# Altium footprint library TL3340AF160QG.PcbLib: 1 footprints
Each footprint in its own frame and in the unit in brackets; x right, y up, seen from the top. Pads: shape width x height; smd on the part's side, far side on the other; paste and mask are expansions set on the pad; w line width, h text height; cw(c..) or ccw(c..) is an arc to the next point about the centre after c.
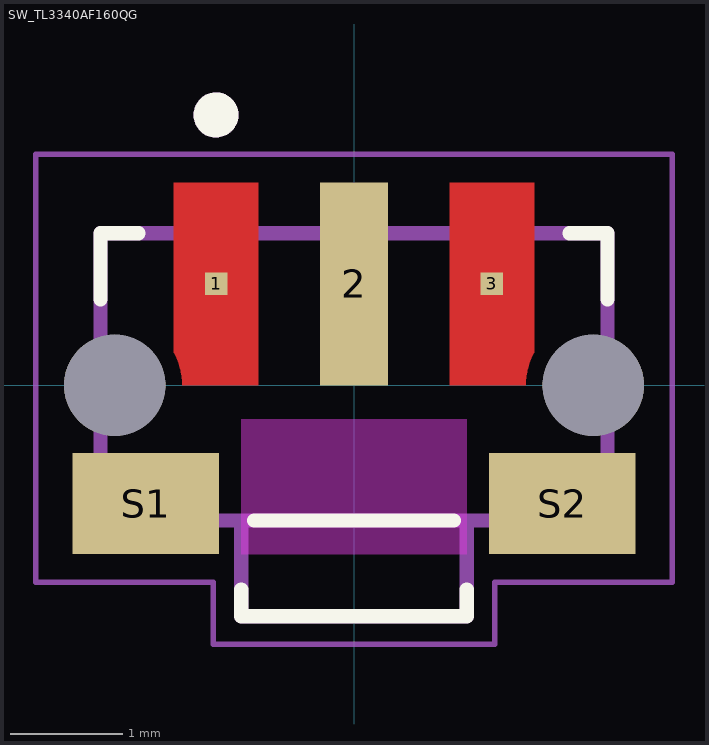
[diagram p0: the footprint, top view; thin cyan lines are the x and y axes]

## SW_TL3340AF160QG [mm]
pads (7):
  rect 0.2x0.2 smd paste-1 mask+0: 1(-1.225,0.9) 3(1.225,0.9)
  rect 0.6x1.8 smd: 2(0,0.9)
  rect 1.3x0.9 smd: S1(-1.85,-1.05) S2(1.85,-1.05)
  round 0.9 hole 0.9 unplated: ""(-2.125,0) ""(2.125,0)
Top Layer:
  region: -0.85,0 -1.525,0 -1.525,0.009 -1.525,0.027 -1.526,0.045 -1.529,0.063 -1.53,0.071 -1.531,0.08 -1.533,0.098 -1.536,0.116 -1.54,0.134 -1.543,0.143 -1.545,0.153 -1.551,0.175 -1.557,0.196 -1.565,0.217 -1.569,0.227 -1.572,0.236 -1.579,0.252 -1.587,0.268 -1.595,0.283 -1.6,0.29 -1.6,0.3 -1.6,1.8 -0.85,1.8
  region: 1.6,0.3 1.6,0.29 1.595,0.283 1.587,0.268 1.579,0.252 1.572,0.236 1.569,0.227 1.565,0.217 1.557,0.196 1.551,0.175 1.545,0.153 1.543,0.143 1.54,0.134 1.536,0.116 1.533,0.098 1.531,0.08 1.53,0.071 1.529,0.063 1.526,0.045 1.525,0.027 1.525,0.009 1.525,0 0.85,0 0.85,1.8 1.6,1.8
Top Overlay:
  circle w0.2: c-1.225,2.4 r0.1
  lines w0.127: -2.25,0.764 -2.25,1.35 -1.913,1.35 ; -1,-1.813 -1,-2.05 1,-2.05 1,-1.813 ; -0.887,-1.2 0.887,-1.2 ; 1.913,1.35 2.25,1.35 2.25,0.764
Top Paste:
  region: -0.85,0 -1.525,0 -1.525,0.009 -1.525,0.027 -1.526,0.045 -1.529,0.063 -1.53,0.071 -1.531,0.08 -1.533,0.098 -1.536,0.116 -1.54,0.134 -1.543,0.143 -1.545,0.153 -1.551,0.175 -1.557,0.196 -1.565,0.217 -1.569,0.227 -1.572,0.236 -1.579,0.252 -1.587,0.268 -1.595,0.283 -1.6,0.29 -1.6,0.3 -1.6,1.8 -0.85,1.8
  region: 1.6,0.3 1.6,0.29 1.595,0.283 1.587,0.268 1.579,0.252 1.572,0.236 1.569,0.227 1.565,0.217 1.557,0.196 1.551,0.175 1.545,0.153 1.543,0.143 1.54,0.134 1.536,0.116 1.533,0.098 1.531,0.08 1.53,0.071 1.529,0.063 1.526,0.045 1.525,0.027 1.525,0.009 1.525,0 0.85,0 0.85,1.8 1.6,1.8
Top Solder:
  region: 1.7,0.423 1.677,0.397 1.635,0.342 1.599,0.282 1.569,0.219 1.556,0.187 1.553,0.178 1.549,0.16 1.544,0.142 1.54,0.123 1.539,0.114 1.537,0.105 1.534,0.086 1.531,0.067 1.529,0.048 1.528,0.039 1.527,0.021 1.527,-0.013 1.528,-0.048 1.531,-0.083 1.533,-0.1 0.75,-0.1 0.75,1.9 1.7,1.9
  region: -0.75,-0.1 -1.533,-0.1 -1.531,-0.083 -1.528,-0.048 -1.527,-0.013 -1.527,0.021 -1.528,0.039 -1.529,0.048 -1.531,0.067 -1.534,0.086 -1.537,0.105 -1.539,0.114 -1.54,0.123 -1.544,0.142 -1.549,0.16 -1.553,0.178 -1.556,0.187 -1.569,0.219 -1.599,0.282 -1.635,0.342 -1.677,0.397 -1.7,0.423 -1.7,1.9 -0.75,1.9
Keep-Out Layer:
  region: 1,-1.5 -1,-1.5 -1,-0.3 1,-0.3
Assembly Top:
  circle w0.2: c-1.225,2.4 r0.1
  lines w0.127: -1,-1.2 -2.25,-1.2 -2.25,1.35 2.25,1.35 2.25,-1.2 1,-1.2 ; -1,-1.2 1,-1.2 ; -1,-1.2 -1,-2.05 1,-2.05 1,-1.2
Courtyard Top:
  lines w0.05: -2.825,-1.75 -1.25,-1.75 -1.25,-2.3 1.25,-2.3 1.25,-1.75 2.825,-1.75 2.825,2.05 -2.825,2.05 -2.825,-1.75
3D body "step_temp.STEP": height 3.3, standoff -0.46, extent -2.25,-2.05 2.25,1.615